# EAGLE library part SZ05-ZIGBEE (library lpatiny)
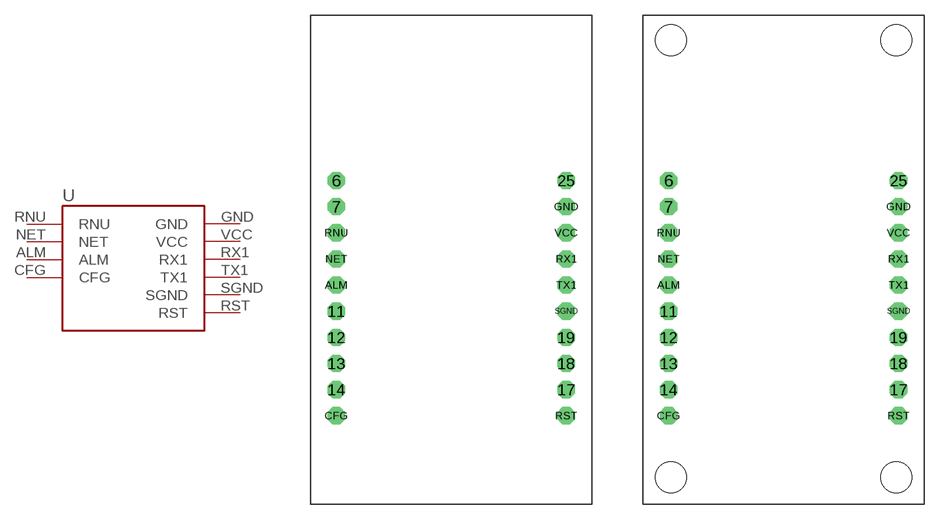
[diagram p19: symbol with the pads of SZ05-ZIGBEE; footprints SZ05-ZIGBEE, SZ05-ZIGBEE2]

Designator prefix -

## SZ05-ZIGBEE  [SZ05-ZIGBEE]
ALM  ALM
CFG  CFG
GND  GND
NET  NET
RNU  RNU
RST  RST
RX1  RX1
SGND  SGND
TX1  TX1
VCC  VCC

## SZ05-ZIGBEE2  [SZ05-ZIGBEE2]
Pads as for SZ05-ZIGBEE

## SZ05-ZIGBEESMD  [SZ05-ZIGBEE3]
ALM  ALM
CFG  CFG
GND  GND
NET  NET
RST  RST
RUN  RNU
RX1  RX1
SND  SGND
TX1  TX1
VCC  VCC

## Footprint SZ05-ZIGBEE (pad centres in mm)
drill 0.8 pad 1.676 octagon: 6 -11.415,13.971; 7 -11.415,11.431; 11 -11.415,1.271; 12 -11.415,-1.269; 13 -11.415,-3.809; 14 -11.415,-6.349; 17 10.925,-6.349; 18 10.925,-3.809; 19 10.925,-1.269; 25 10.925,13.971; ALM -11.415,3.811; CFG -11.415,-8.889; GND 10.925,11.431; NET -11.415,6.351; RNU -11.415,8.891; RST 10.925,-8.889; RX1 10.925,6.351; SGND 10.925,1.271; TX1 10.925,3.811; VCC 10.925,8.891

## Footprint SZ05-ZIGBEE2 (pad centres in mm)
drill 0.8 pad 1.676 octagon: 6 -11.415,13.971; 7 -11.415,11.431; 11 -11.415,1.271; 12 -11.415,-1.269; 13 -11.415,-3.809; 14 -11.415,-6.349; 17 10.925,-6.349; 18 10.925,-3.809; 19 10.925,-1.269; 25 10.925,13.971; ALM -11.415,3.811; CFG -11.415,-8.889; GND 10.925,11.431; NET -11.415,6.351; RNU -11.415,8.891; RST 10.925,-8.889; RX1 10.925,6.351; SGND 10.925,1.271; TX1 10.925,3.811; VCC 10.925,8.891
hole 3 at -11.195,27.621
hole 3 at -11.195,-14.879
hole 3 at 10.705,-14.879
hole 3 at 10.705,27.621

## Footprint SZ05-ZIGBEE3 (pad centres in mm)
smd 1.27 x 0.635: AD1 -7.62,6.35; AD2 -7.62,5.08; AD3 -7.62,3.81; AD4 -7.62,2.54; ALM -7.62,-1.27; C485 -7.62,-3.81; CFG -7.62,-7.62; GND 8.89,2.54; IO1 -7.62,8.89; IO2 -7.62,7.62; IO3 8.89,8.89; IO4 8.89,7.62; IO5 8.89,6.35; IO6 8.89,5.08; IO7 8.89,3.81; IO8 -7.62,-5.08; IO9 -7.62,-6.35; MS 8.89,-6.35; NET -7.62,0; RST 8.89,-7.62; RUN -7.62,1.27; RX1 8.89,0; RX2 8.89,-5.08; SLD -7.62,-2.54; SND 8.89,-2.54; TX1 8.89,-1.27; TX2 8.89,-3.81; VCC 8.89,1.27